# EAGLE library part 826936-2 (library 826936-2)
TE Connectivity AMPMODU, 2 Way, 1 Row, Straight PCB Header Source: Datasheet <https://componentsearchengine.com/Datasheets/1/826936-2.pdf>
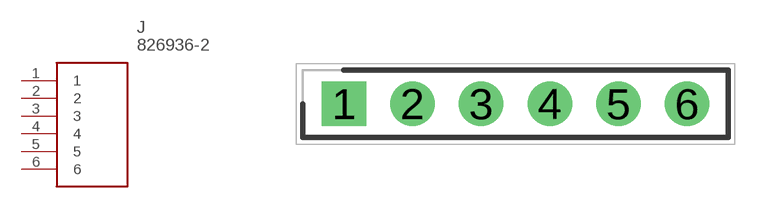
[diagram p0: symbol with the pads of HDRV6W63P0X254_1X6_1524X250X86; footprint HDRV6W63P0X254_1X6_1524X250X86]

Designator prefix J

## 826936-2 (Arrow_Part_Number: 826936-2; Arrow_Price-Stock: https://www.arrow.com/en/products/826936-2/te-connectivity; Description: TE Connectivity AMPMODU, 2 Way, 1 Row, Straight PCB Header; Height: 8.6mm; Manufacturer_Name: TE Connectivity; Manufacturer_Part_Number: 826936-2; Mouser_Part_Number: 571-826936-2; Mouser_Price-Stock: https://www.mouser.co.uk/ProductDetail/TE-Connectivity/826936-2?qs=iFS2b0%2FgCMHUBQqCa2Zymw%3D%3D)  [HDRV6W63P0X254_1X6_1524X250X86]
1  1
2  2
3  3
4  4
5  5
6  6

## Footprint HDRV6W63P0X254_1X6_1524X250X86 (pad centres in mm)
826936-2
drill 1.1 pad 1.65 square: 1 0,0
drill 1.1 pad 1.65: 2 2.54,0; 3 5.08,0; 4 7.62,0; 5 10.16,0; 6 12.7,0